# Altium schematic symbol library MCU_IF.SchLib: 2 symbols
Pins are listed as number, name and electrical type; pins without a type are passive.

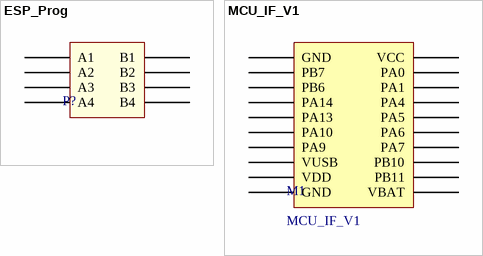
[diagram p0: symbols ESP_Prog to MCU_IF_V1]

## ESP_Prog
designator P?
footprint ESP_Prog
pins: A1, A2, A3, A4, B1, B2, B3, B4

## MCU_IF_V1
designator M1
footprint MCU_IF_V1
footprint MCU_IF_V2
pins: 1 GND, 2 PB7, 3 PB6, 4 PA14, 5 PA13, 6 PA10, 7 PA9, 8 VUSB, 9 VDD, 10 GND, 11 VBAT, 12 PB11, 13 PB10, 14 PA7, 15 PA6, 16 PA5, 17 PA4, 18 PA1, 19 PA0, 20 VCC